# Altium footprint library SN74CBTLV3251D.PcbLib: 3 footprints
Each footprint in its own frame and in the unit in brackets; x right, y up, seen from the top. Pads: shape width x height; smd on the part's side, far side on the other; paste and mask are expansions set on the pad; w line width, h text height; cw(c..) or ccw(c..) is an arc to the next point about the centre after c.
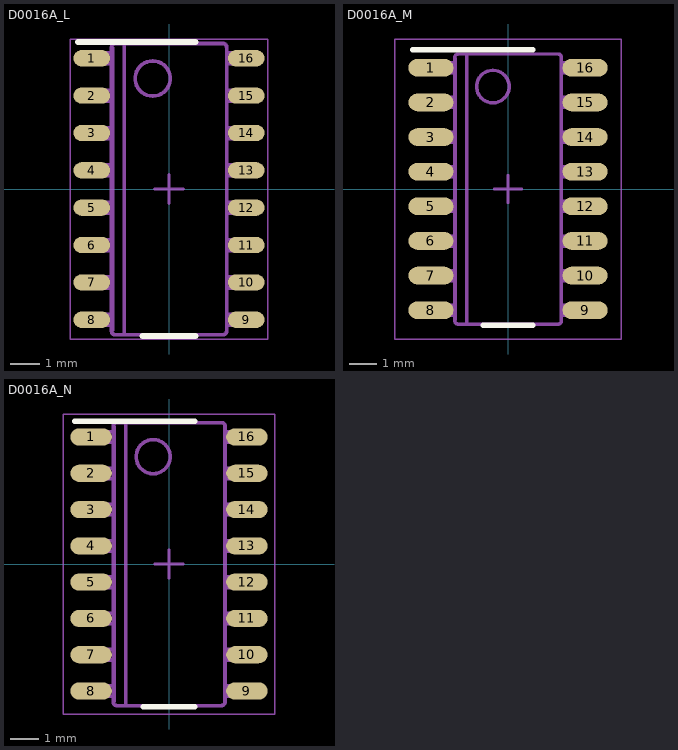
[diagram p0: the footprints below, top view; thin cyan lines are the x and y axes]

## D0016A_L [mm]
pads (16):
  oval 1.25x0.55 smd paste+0 mask+0: 1(-2.625,4.445) 2(-2.625,3.175) 3(-2.625,1.905) 4(-2.625,0.635) 5(-2.625,-0.635) 6(-2.625,-1.905) 7(-2.625,-3.175) 8(-2.625,-4.445) 9(2.625,-4.445) 10(2.625,-3.175) 11(2.625,-1.905) 12(2.625,-0.635) 13(2.625,0.635) 14(2.625,1.905) 15(2.625,3.175) 16(2.625,4.445)
Top Overlay:
  lines w0.2: -3.1,5 0.9,5 ; -0.9,-5 0.9,-5
Mechanical 13:
  drawing of 204 lines, arcs and shapes, not listed
Mechanical 15:
  lines w0.05: -3.35,-5.1 3.35,-5.1 3.35,5.1 -3.35,5.1 -3.35,-5.1
  lines w0.1: -0.5,0 0.5,0 ; 0,-0.5 0,0.5

## D0016A_M [mm]
pads (16):
  oval 1.65x0.65 smd paste+0 mask+0: 1(-2.825,4.445) 2(-2.825,3.175) 3(-2.825,1.905) 4(-2.825,0.635) 5(-2.825,-0.635) 6(-2.825,-1.905) 7(-2.825,-3.175) 8(-2.825,-4.445) 9(2.825,-4.445) 10(2.825,-3.175) 11(2.825,-1.905) 12(2.825,-0.635) 13(2.825,0.635) 14(2.825,1.905) 15(2.825,3.175) 16(2.825,4.445)
Top Overlay:
  lines w0.2: -3.5,5.1 0.9,5.1 ; -0.9,-5 0.9,-5
Mechanical 13:
  drawing of 204 lines, arcs and shapes, not listed
Mechanical 15:
  lines w0.05: -4.15,-5.5 4.15,-5.5 4.15,5.5 -4.15,5.5 -4.15,-5.5
  lines w0.1: -0.5,0 0.5,0 ; 0,-0.5 0,0.5

## D0016A_N [mm]
pads (16):
  oval 1.45x0.6 smd paste+0 mask+0: 1(-2.725,4.445) 2(-2.725,3.175) 3(-2.725,1.905) 4(-2.725,0.635) 5(-2.725,-0.635) 6(-2.725,-1.905) 7(-2.725,-3.175) 8(-2.725,-4.445) 9(2.725,-4.445) 10(2.725,-3.175) 11(2.725,-1.905) 12(2.725,-0.635) 13(2.725,0.635) 14(2.725,1.905) 15(2.725,3.175) 16(2.725,4.445)
Top Overlay:
  lines w0.2: -3.3,5 0.9,5 ; -0.9,-5 0.9,-5
Mechanical 13:
  drawing of 204 lines, arcs and shapes, not listed
Mechanical 15:
  lines w0.05: -3.7,-5.25 3.7,-5.25 3.7,5.25 -3.7,5.25 -3.7,-5.25
  lines w0.1: -0.5,0 0.5,0 ; 0,-0.5 0,0.5